# EAGLE library part FH12A-40S-0.5SH_55_ (library FH12A-40S-0.5SH_55_)
40 Position FFC, FPC Connector Contacts, Top 0.020" (0.50mm) Surface Mount, Right Angle Source: Datasheet <https://www.hirose.com/en/product/document?clcode=CL0586-0557-8-55&productname=FH12A-40S-0.5SH(55)&series=FH12&documenttype=2DDrawing&lang=en&documentid=0000906862>
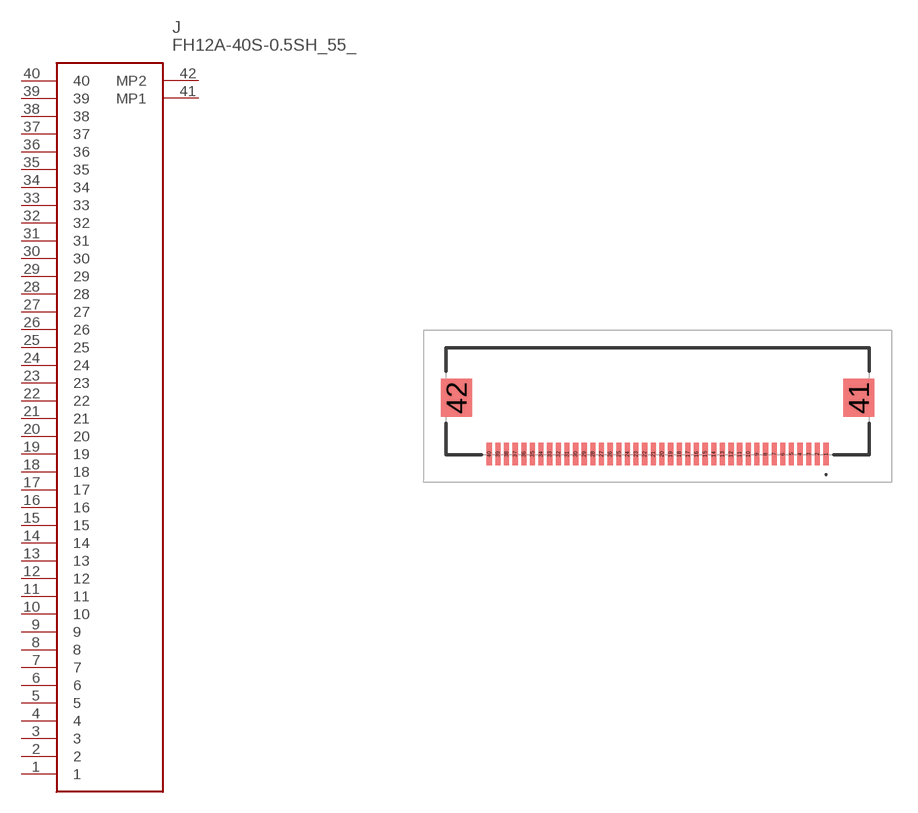
[diagram p0: symbol with the pads of FH12A40S05SH55; footprint FH12A40S05SH55]

Designator prefix J

## FH12A-40S-0.5SH_55_ (Description: 40 Position FFC, FPC Connector Contacts, Top 0.020" (0.50mm) Surface Mount, Right Angle; Height: 2.2mm; Manufacturer_Name: Hirose; Manufacturer_Part_Number: FH12A-40S-0.5SH(55))  [FH12A40S05SH55]
1  1
2  2
3  3
4  4
5  5
6  6
7  7
8  8
9  9
10  10
11  11
12  12
13  13
14  14
15  15
16  16
17  17
18  18
19  19
20  20
21  21
22  22
23  23
24  24
25  25
26  26
27  27
28  28
29  29
30  30
31  31
32  32
33  33
34  34
35  35
36  36
37  37
38  38
39  39
40  40
41  MP1
42  MP2

## Footprint FH12A40S05SH55 (pad centres in mm)
FH12A-40S-0.5SH(55)-2
smd 0.3 x 1.3: 1 9.75,-3.05; 2 9.25,-3.05; 3 8.75,-3.05; 4 8.25,-3.05; 5 7.75,-3.05; 6 7.25,-3.05; 7 6.75,-3.05; 8 6.25,-3.05; 9 5.75,-3.05; 10 5.25,-3.05; 11 4.75,-3.05; 12 4.25,-3.05; 13 3.75,-3.05; 14 3.25,-3.05; 15 2.75,-3.05; 16 2.25,-3.05; 17 1.75,-3.05; 18 1.25,-3.05; 19 0.75,-3.05; 20 0.25,-3.05; 21 -0.25,-3.05; 22 -0.75,-3.05; 23 -1.25,-3.05; 24 -1.75,-3.05; 25 -2.25,-3.05; 26 -2.75,-3.05; 27 -3.25,-3.05; 28 -3.75,-3.05; 29 -4.25,-3.05; 30 -4.75,-3.05; 31 -5.25,-3.05; 32 -5.75,-3.05; 33 -6.25,-3.05; 34 -6.75,-3.05; 35 -7.25,-3.05; 36 -7.75,-3.05; 37 -8.25,-3.05; 38 -8.75,-3.05; 39 -9.25,-3.05; 40 -9.75,-3.05
smd 1.8 x 2.2: 41 11.65,0.2; 42 -11.65,0.2